# EAGLE library part 146134-26 (library con-tyco-mod-II)
HEADER
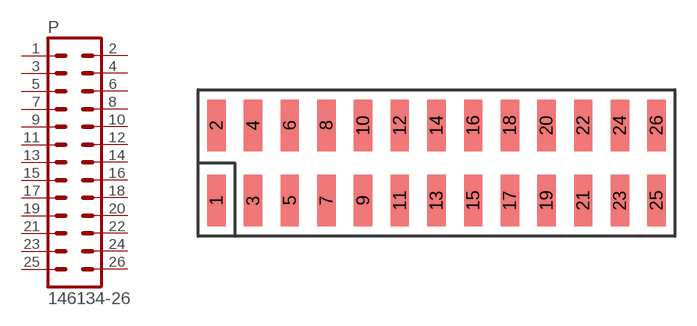
[diagram p10: symbol with the pads of 146134-26; footprint 146134-26]

Designator prefix P

## 146134-26  [146134-26]
1  1  pas
2  2  pas
3  3  pas
4  4  pas
5  5  pas
6  6  pas
7  7  pas
8  8  pas
9  9  pas
10  10  pas
11  11  pas
12  12  pas
13  13  pas
14  14  pas
15  15  pas
16  16  pas
17  17  pas
18  18  pas
19  19  pas
20  20  pas
21  21  pas
22  22  pas
23  23  pas
24  24  pas
25  25  pas
26  26  pas

## Footprint 146134-26 (pad centres in mm)
HEADER
smd 1.27 x 3.556: 1 -15.24,-2.603; 2 -15.24,2.603; 3 -12.7,-2.603; 4 -12.7,2.603; 5 -10.16,-2.603; 6 -10.16,2.603; 7 -7.62,-2.603; 8 -7.62,2.603; 9 -5.08,-2.603; 10 -5.08,2.603; 11 -2.54,-2.603; 12 -2.54,2.603; 13 0,-2.603; 14 0,2.603; 15 2.54,-2.603; 16 2.54,2.603; 17 5.08,-2.603; 18 5.08,2.603; 19 7.62,-2.603; 20 7.62,2.603; 21 10.16,-2.603; 22 10.16,2.603; 23 12.7,-2.603; 24 12.7,2.603; 25 15.24,-2.603; 26 15.24,2.603